# EAGLE library part FEMALE_2X50 (library be_con_jump)
drawn: Mario Blunk / Blunk electronic
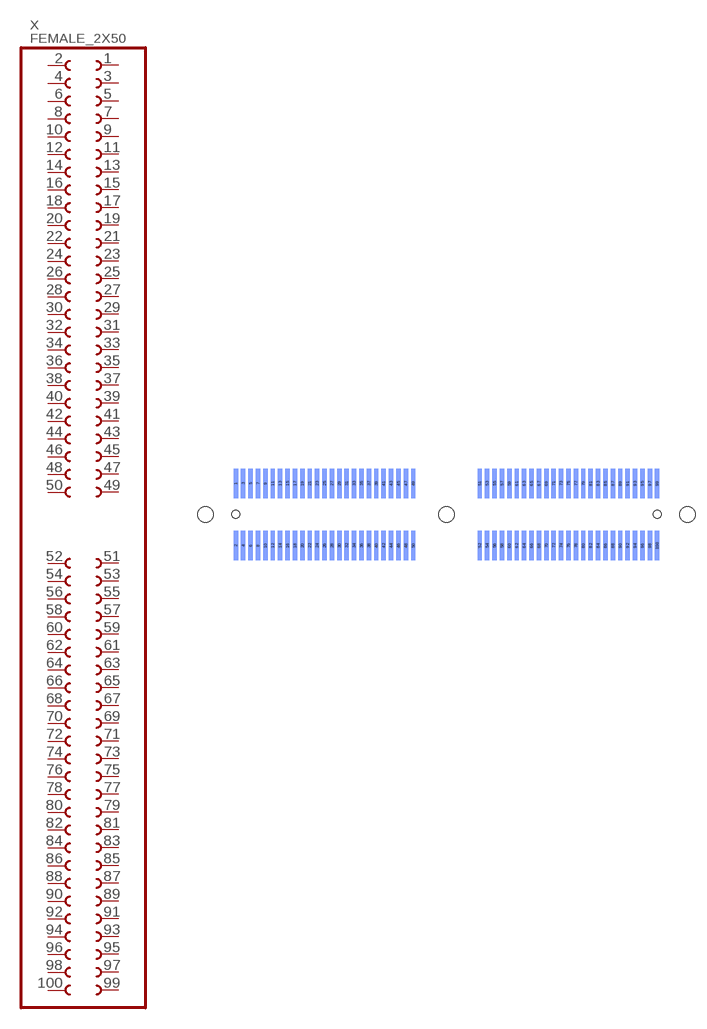
[diagram p12: symbol with the pads of S_SAMTEC_FSI-150-X_COUNTERPART; footprint S_SAMTEC_FSI-150-X_COUNTERPART]

Designator prefix X

## FEMALE_2X50 (BOM: NO; COMMISSIONED: 2014-01-31; PART_CODE_BEL: X_PAC_S_SAMTEC_FSI-150-x)  [S_SAMTEC_FSI-150-X_COUNTERPART]
1  1  pas
2  2  pas
3  3  pas
4  4  pas
5  5  pas
6  6  pas
7  7  pas
8  8  pas
9  9  pas
10  10  pas
11  11  pas
12  12  pas
13  13  pas
14  14  pas
15  15  pas
16  16  pas
17  17  pas
18  18  pas
19  19  pas
20  20  pas
21  21  pas
22  22  pas
23  23  pas
24  24  pas
25  25  pas
26  26  pas
27  27  pas
28  28  pas
29  29  pas
30  30  pas
31  31  pas
32  32  pas
33  33  pas
34  34  pas
35  35  pas
36  36  pas
37  37  pas
38  38  pas
39  39  pas
40  40  pas
41  41  pas
42  42  pas
43  43  pas
44  44  pas
45  45  pas
46  46  pas
47  47  pas
48  48  pas
49  49  pas
50  50  pas
51  51  pas
52  52  pas
53  53  pas
54  54  pas
55  55  pas
56  56  pas
57  57  pas
58  58  pas
59  59  pas
60  60  pas
61  61  pas
62  62  pas
63  63  pas
64  64  pas
65  65  pas
66  66  pas
67  67  pas
68  68  pas
69  69  pas
70  70  pas
71  71  pas
72  72  pas
73  73  pas
74  74  pas
75  75  pas
76  76  pas
77  77  pas
78  78  pas
79  79  pas
80  80  pas
81  81  pas
82  82  pas
83  83  pas
84  84  pas
85  85  pas
86  86  pas
87  87  pas
88  88  pas
89  89  pas
90  90  pas
91  91  pas
92  92  pas
93  93  pas
94  94  pas
95  95  pas
96  96  pas
97  97  pas
98  98  pas
99  99  pas
100  100  pas

## Footprint S_SAMTEC_FSI-150-X_COUNTERPART (pad centres in mm)
NOTE ! This is a virtual package consisting of SMD pads only ! It is regarded as counterpart to the SAMTEC FSI-150-x series drawn: Mario Blunk / Blunk electronic edited: 2014-01-31
smd 0.6 x 4 bottom: 1 -28.5,4.2; 2 -28.5,-4.2; 3 -27.5,4.2; 4 -27.5,-4.2; 5 -26.5,4.2; 6 -26.5,-4.2; 7 -25.5,4.2; 8 -25.5,-4.2; 9 -24.5,4.2; 10 -24.5,-4.2; 11 -23.5,4.2; 12 -23.5,-4.2; 13 -22.5,4.2; 14 -22.5,-4.2; 15 -21.5,4.2; 16 -21.5,-4.2; 17 -20.5,4.2; 18 -20.5,-4.2; 19 -19.5,4.2; 20 -19.5,-4.2; 21 -18.5,4.2; 22 -18.5,-4.2; 23 -17.5,4.2; 24 -17.5,-4.2; 25 -16.5,4.2; 26 -16.5,-4.2; 27 -15.5,4.2; 28 -15.5,-4.2; 29 -14.5,4.2; 30 -14.5,-4.2; 31 -13.5,4.2; 32 -13.5,-4.2; 33 -12.5,4.2; 34 -12.5,-4.2; 35 -11.5,4.2; 36 -11.5,-4.2; 37 -10.5,4.2; 38 -10.5,-4.2; 39 -9.5,4.2; 40 -9.5,-4.2; 41 -8.5,4.2; 42 -8.5,-4.2; 43 -7.5,4.2; 44 -7.5,-4.2; 45 -6.5,4.2; 46 -6.5,-4.2; 47 -5.5,4.2; 48 -5.5,-4.2; 49 -4.5,4.2; 50 -4.5,-4.2; 51 4.5,4.2; 52 4.5,-4.2; 53 5.5,4.2; 54 5.5,-4.2; 55 6.5,4.2; 56 6.5,-4.2; 57 7.5,4.2; 58 7.5,-4.2; 59 8.5,4.2; 60 8.5,-4.2; 61 9.5,4.2; 62 9.5,-4.2; 63 10.5,4.2; 64 10.5,-4.2; 65 11.5,4.2; 66 11.5,-4.2; 67 12.5,4.2; 68 12.5,-4.2; 69 13.5,4.2; 70 13.5,-4.2; 71 14.5,4.2; 72 14.5,-4.2; 73 15.5,4.2; 74 15.5,-4.2; 75 16.5,4.2; 76 16.5,-4.2; 77 17.5,4.2; 78 17.5,-4.2; 79 18.5,4.2; 80 18.5,-4.2; 81 19.5,4.2; 82 19.5,-4.2; 83 20.5,4.2; 84 20.5,-4.2; 85 21.5,4.2; 86 21.5,-4.2; 87 22.5,4.2; 88 22.5,-4.2; 89 23.5,4.2; 90 23.5,-4.2; 91 24.5,4.2; 92 24.5,-4.2; 93 25.5,4.2; 94 25.5,-4.2; 95 26.5,4.2; 96 26.5,-4.2; 97 27.5,4.2; 98 27.5,-4.2; 99 28.5,4.2; 100 28.5,-4.2
hole 2.1 at 32.62,0
hole 2.1 at -32.62,0
hole 2.1 at 0,0
hole 1.1 at 28.5,0
hole 1.1 at -28.5,0